# Altium schematic symbol library SCH new.SCHLIB: 19 symbols
Pins are listed as number, name and electrical type; pins without a type are passive.

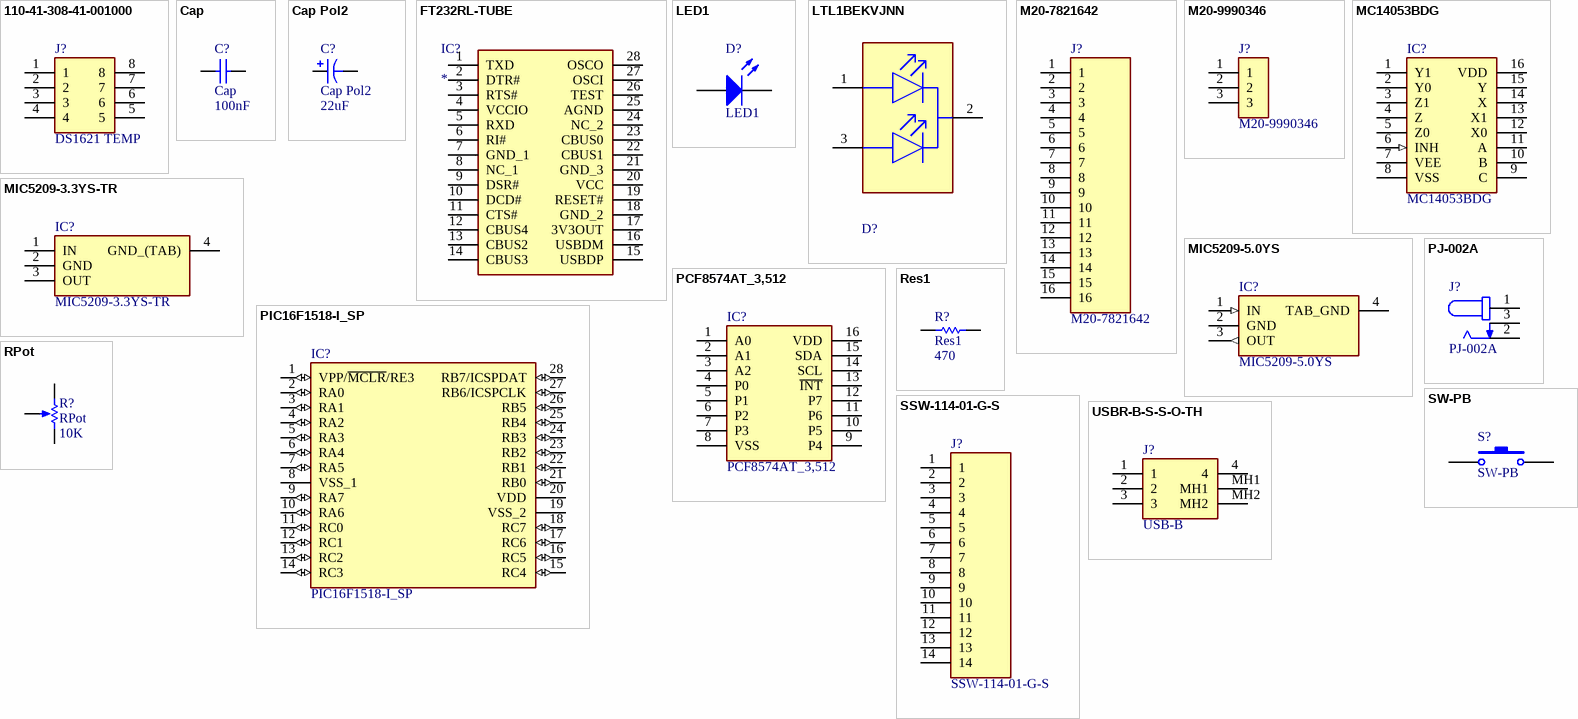
[diagram p0: symbols 110-41-308-41-001000 to USBR-B-S-S-O-TH]

## 110-41-308-41-001000
designator J?, comment DS1621 TEMP
Connector; Manufacturer_Name: Mill-Max; Manufacturer_Part_Number: 110-41-308-41-001000; Datasheet Link: https://www.arrow.com/en/products/110-41-308-41-001000/mill-max; Height: 4.19mm
footprint DIL 8 pins
pins: 1, 2, 3, 4, 5, 6, 7, 8

## Cap
designator C?  value 100nF
Capacitor; Published: 8-Jun-2000; LatestRevisionDate: 17-Jul-2002; LatestRevisionNote: Re-released for DXP Platform.; PackageReference: RAD-0.3; Publisher: Altium Limited; PackageDescription: Radial Cap, Thru-Hole; 2 Leads; 0.3 in Pin Spacing
footprint Cap 100nF
footprint cap 4.7uf
pins: 1, 2

## Cap Pol2
designator C?  value 22uF
Polarized Capacitor (Axial); Published: 8-Jun-2000; LatestRevisionDate: 17-Jul-2002; LatestRevisionNote: Re-released for DXP Platform.; PackageReference: POLAR0.8; Publisher: Altium Limited; PackageDescription: Polarized Capacitor; 2 Leads
footprint CAP+ 22UF
pins: 1, 2
1 alternate drawing of the same symbol

## FT232RL-TUBE
designator IC?
Integrated Circuit; Manufacturer_Name: FTDI Chip; Manufacturer_Part_Number: FT232RL-TUBE; Description: USB Interface IC FT232R Single Ch Full Speed; Datasheet Link: http://www.ftdichip.com/Support/Documents/DataSheets/ICs/DS_FT232R.pdf; Height: 2mm; Arrow Part Number: FT232RL-TUBE; Arrow Price/Stock: https://www.arrow.com/en/products/ft232rl-tube/ftdi-chip; Mouser Part Number: 895-FT232RL-TUBE; Mouser Price/Stock: https://www.mouser.co.uk/ProductDetail/FTDI/FT232RL-TUBE?qs=D1%2FPMqvA100UF95YMvGN8w%3D%3D
footprint UART
pins: 1 TXD, 2 DTR#, 3 RTS#, 4 VCCIO, 5 RXD, 6 RI#, 7 GND_1, 8 NC_1, 9 DSR#, 10 DCD#, 11 CTS#, 12 CBUS4, 13 CBUS2, 14 CBUS3, 15 USBDP, 16 USBDM, 17 3V3OUT, 18 GND_2, 19 RESET#, 20 VCC, 21 GND_3, 22 CBUS1, 23 CBUS0, 24 NC_2, 25 AGND, 26 TEST, 27 OSCI, 28 OSCO

## LED1
designator D?
Typical RED GaAs LED; Published: 8-Jun-2000; LatestRevisionDate: 08-Jul-2005; LatestRevisionNote: Mech Layer 1 removed.; PackageReference: LED-1; Publisher: Altium Limited; PackageDescription: LED; 2 Leads
footprint LED 3mm
pins: 1 A, 2 K

## LTL1BEKVJNN
designator D?  (value not drawn)
footprint Bicolor LED
pins: 1 RED A, 2 COMMON CATHODE, 3 GREEN A

## M20-7821642
designator J?
Connector; Manufacturer_Name: Harwin; Datasheet Link: https://componentsearchengine.com//M20-7821642.pdf; Height: 8.65mm; Mouser2 Part Number: 855-M20-7821642; Mouser2 Price/Stock: https://www.mouser.com/Search/Refine.aspx?Keyword=855-M20-7821642; Manufacturer_Part_Number: M20-7821642
footprint Header 16 pins fem.
pins: 1, 2, 3, 4, 5, 6, 7, 8, 9, 10, 11, 12, 13, 14, 15, 16

## M20-9990346
designator J?
Connector; Manufacturer_Name: Harwin; Datasheet Link: http://uk.rs-online.com/web/p/products/7457068; Height: 8.64mm; Manufacturer_Part_Number: M20-9990346; Mouser Part Number: 855-M20-9990346; Mouser Price/Stock: https://www.mouser.co.uk/ProductDetail/Harwin/M20-9990346?qs=ulE8k0yEMYbyhQ3uXpFs8Q%3D%3D
footprint header 3 pins male
footprint Header 3 pins fem. (Low Profile Socket Strip, 1x3 Pins, Vertical, 2.54mm Pitch, Female)
pins: 1, 2, 3

## MC14053BDG
designator IC?
Integrated Circuit; Manufacturer_Name: ON Semiconductor; Datasheet Link: http://www.onsemi.com/pub/Collateral/MC14051B-D.PDF; Height: 1.75mm; Manufacturer_Part_Number: MC14053BDG; Arrow Part Number: MC14053BDG; Arrow Price/Stock: https://www.arrow.com/en/products/mc14053bdg/on-semiconductor; Mouser Part Number: 863-MC14053BDG; Mouser Price/Stock: https://www.mouser.co.uk/ProductDetail/ON-Semiconductor/MC14053BDG?qs=g2rIOKKlpobK7Wa1TqI4Yg%3D%3D
footprint Triple SPDT switch (SOIC, 16-Leads, Body 10x4mm, Pitch 1.27mm)
pins: 1 Y1, 2 Y0, 3 Z1, 4 Z, 5 Z0, 6 INH (in), 7 VEE, 8 VSS (power), 9 C, 10 B, 11 A, 12 X0, 13 X1, 14 X, 15 Y, 16 VDD (power)

## MIC5209-3.3YS-TR
designator IC?
Integrated Circuit; Manufacturer_Name: Microchip; Datasheet Link: http://ww1.microchip.com/downloads/en/DeviceDoc/mic5209.pdf; Height: 1.7mm; Manufacturer_Part_Number: MIC5209-3.3YS-TR; Arrow Part Number: MIC5209-3.3YS-TR; Arrow Price/Stock: https://www.arrow.com/en/products/mic5209-3.3ys-tr/microchip-technology; Mouser Part Number: 998-MIC5209-3.3YSTR; Mouser Price/Stock: https://www.mouser.co.uk/ProductDetail/Microchip-Technology-Micrel/MIC5209-33YS-TR?qs=U6T8BxXiZAXms9mvoyYO%2FQ%3D%3D
footprint LDO
pins: 1 IN (power), 2 GND (power), 3 OUT (power), 4 GND_(TAB)

## MIC5209-5.0YS
designator IC?
Integrated Circuit; Manufacturer_Name: Microchip; Datasheet Link: http://www.micrel.com/_PDF/mic5209.pdf; Height: 1.8mm; Manufacturer_Part_Number: MIC5209-5.0YS; Arrow Part Number: MIC5209-5.0YS; Arrow Price/Stock: https://www.arrow.com/en/products/mic5209-5.0ys/microchip-technology; Mouser Part Number: 998-MIC5209-5.0YS; Mouser Price/Stock: https://www.mouser.com/Search/Refine.aspx?Keyword=998-MIC5209-5.0YS
footprint LDO
pins: 1 IN (in), 2 GND (power), 3 OUT (out), 4 TAB_GND (power)

## PCF8574AT_3,512
designator IC?
Integrated Circuit; Manufacturer_Name: Nexperia; Manufacturer_Part_Number: PCF8574AT/3,512; Datasheet Link: https://www.nxp.com/docs/en/data-sheet/PCF8574_PCF8574A.pdf; Height: 2.65mm; Arrow Part Number: PCF8574AT/3,512; Arrow Price/Stock: https://www.arrow.com/en/products/pcf8574at3512/nxp-semiconductors; Mouser Part Number: 771-PCF85AT3512; Mouser Price/Stock: https://www.mouser.com/Search/Refine.aspx?Keyword=771-PCF85AT3512
footprint I2C LCD IC
pins: 1 A0, 2 A1, 3 A2, 4 P0, 5 P1, 6 P2, 7 P3, 8 VSS, 9 P4, 10 P5, 11 P6, 12 P7, 13 ~{INT}, 14 SCL, 15 SDA, 16 VDD

## PIC16F1518-I_SP
designator IC?
Integrated Circuit; Manufacturer_Name: Microchip; Manufacturer_Part_Number: PIC16F1518-I/SP; Datasheet Link: http://ww1.microchip.com/downloads/en/DeviceDoc/40001452F.pdf; Height: 5.08mm; Arrow Part Number: PIC16F1518-I/SP; Arrow Price/Stock: https://www.arrow.com/en/products/pic16f1518-isp/microchip-technology; Mouser Part Number: 579-PIC16F1518-I/SP; Mouser Price/Stock: https://www.mouser.com/Search/Refine.aspx?Keyword=579-PIC16F1518-I%2FSP
footprint DIP28
pins: 1 VPP/~{MCLR}/RE3 (io), 2 RA0 (io), 3 RA1 (io), 4 RA2 (io), 5 RA3 (io), 6 RA4 (io), 7 RA5 (io), 8 VSS_1 (power), 9 RA7 (io), 10 RA6 (io), 11 RC0 (io), 12 RC1 (io), 13 RC2 (io), 14 RC3 (io), 15 RC4 (io), 16 RC5 (io), 17 RC6 (io), 18 RC7 (io), 19 VSS_2 (power), 20 VDD (power), 21 RB0 (io), 22 RB1 (io), 23 RB2 (io), 24 RB3 (io), 25 RB4 (io), 26 RB5 (io), 27 RB6/ICSPCLK (io), 28 RB7/ICSPDAT (io)

## PJ-002A
designator J?
DC jack; MF: CUI Devices; Package: None; Price: None; CUI_purchase_URL: https://www.cuidevices.com/product/interconnect/connectors/dc-power-connectors/jacks/pj-002a?utm_source=snapeda.com&utm_medium=referral&utm_campaign=snapedaBOM; SnapEDA_Link: https://www.snapeda.com/parts/PJ-002A/CUI%20Devices/view-part/287588/?ref=snap; Availability: Unavailable; Value: *; MP: PJ-002A
footprint DC Jack
pins: 1, 2, 3

## Res1
designator R?  value 470
Resistor; Published: 8-Jun-2000; LatestRevisionDate: 17-Jul-2002; LatestRevisionNote: Re-released for DXP Platform.; PackageReference: AXIAL-0.3; Publisher: Altium Limited; PackageDescription: Axial Device, Thru-Hole; 2 Leads; 0.3 in Pin Spacing
footprint Resistor 1206
footprint Resistor 1210
pins: 1, 2

## RPot
designator R?  value 10K
Potentiometer; Sim Note: Enter the Resistance value and the set point into parameter fields.; Set Position: 0.5; Published: 8-Jun-2000; LatestRevisionDate: 17-Jul-2002; LatestRevisionNote: Re-released for DXP Platform.; PackageReference: VR5; Publisher: Altium Limited; PackageDescription: Variable Resistor, Thru-Hole; 3 Leads
footprint POT
pins: 1 TOP, 2 BOT, 3 TAP
1 alternate drawing of the same symbol

## SSW-114-01-G-S
designator J?
Connector; Manufacturer_Name: SAMTEC; Datasheet Link: https://eu.mouser.com/datasheet/2/527/ssw_th-1507658.pdf; Height: 8.51mm; Manufacturer_Part_Number: SSW-114-01-G-S; Arrow Part Number: SSW-114-01-G-S; Arrow Price/Stock: https://www.arrow.com/en/products/ssw-114-01-g-s/samtec; Mouser Part Number: 200-SSW11401GS; Mouser Price/Stock: https://www.mouser.co.uk/ProductDetail/Samtec/SSW-114-01-G-S?qs=FESYatJ8odJdl4aGY%2FwgtQ%3D%3D
footprint Header 14 pins fem. (SQ Post Socket, 1x14 Pins, Vertical, 2.54mm Pitch, Female)
pins: 1, 2, 3, 4, 5, 6, 7, 8, 9, 10, 11, 12, 13, 14

## SW-PB
designator S?
Switch; Published: 24-Mar-1999; LatestRevisionDate: 17-Jul-2002; LatestRevisionNote: Re-released for DXP Platform.; PackageReference: SPST-2; Publisher: Altium Limited; PackageDescription: Switch; 2 Leads
footprint Button
pins: 1, 2

## USBR-B-S-S-O-TH
designator J?, comment USB-B
Connector; Manufacturer_Name: SAMTEC; Manufacturer_Part_Number: USBR-B-S-S-O-TH; Datasheet Link: https://componentsearchengine.com/Datasheets/2/USBR-B-S-S-O-TH.pdf; Height: 11mm; Arrow Part Number: USBR-B-S-S-O-TH; Arrow Price/Stock: https://www.arrow.com/en/products/usbr-b-s-s-o-th/samtec; Mouser Part Number: 200-USBRBSSOTH; Mouser Price/Stock: https://www.mouser.co.uk/ProductDetail/Samtec/USBR-B-S-S-O-TH?qs=Sk19l0%2FxcWm4mdmoDSlrBQ%3D%3D
footprint USB B
pins: 1, 2, 3, 4, MH1, MH2